# Altium schematic symbol library Molex Micro-Fit.SchLib: 19 symbols
Pins are listed as number, name and electrical type; pins without a type are passive.

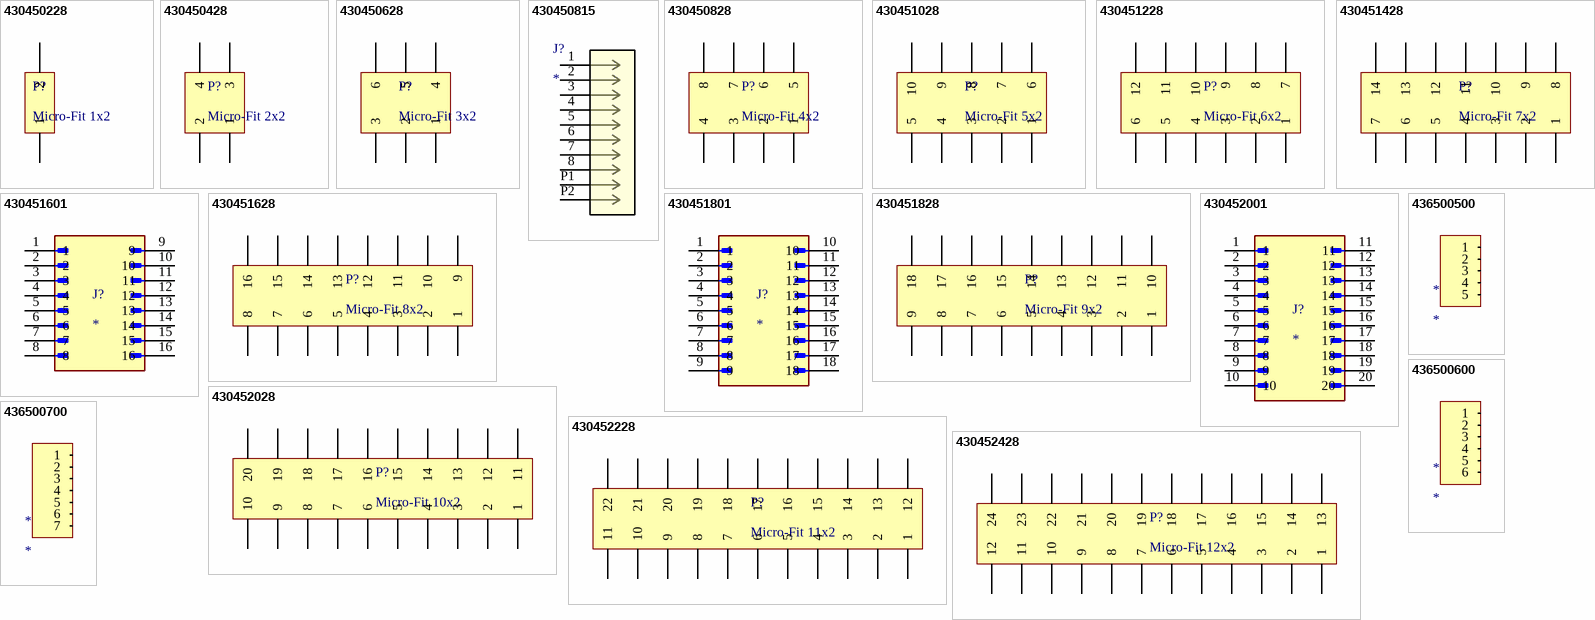
[diagram p0: symbols 430450228 to 436500700]

## 430450228
designator P?, comment Micro-Fit 1x2
pins: 1, 2

## 430450428
designator P?, comment Micro-Fit 2x2
pins: 1, 2, 3, 4

## 430450628
designator P?, comment Micro-Fit 3x2
pins: 1, 2, 3, 4, 5, 6

## 430450815
designator J?
No Description Available; Mfr_Name: Molex Connector Corporation; RefDes: RefDes; Type: Type
footprint CON_430450815_MOL
pins: 1, 2, 3, 4, 5, 6, 7, 8, P1, P2

## 430450828
designator P?, comment Micro-Fit 4x2
pins: 1, 2, 3, 4, 5, 6, 7, 8

## 430451028
designator P?, comment Micro-Fit 5x2
pins: 1, 2, 3, 4, 5, 6, 7, 8, 9, 10

## 430451228
designator P?, comment Micro-Fit 6x2
pins: 1, 2, 3, 4, 5, 6, 7, 8, 9, 10, 11, 12

## 430451428
designator P?, comment Micro-Fit 7x2
pins: 1, 2, 3, 4, 5, 6, 7, 8, 9, 10, 11, 12, 13, 14

## 430451601
designator J?
Micro-Fit 8x2 TH R/A; MP: 430451601; Price: None; Availability: Unavailable; Package: None; Value: *
footprint MOLEX_430451601
pins: 1, 2, 3, 4, 5, 6, 7, 8, 9, 10, 11, 12, 13, 14, 15, 16

## 430451628
designator P?, comment Micro-Fit 8x2
pins: 1, 2, 3, 4, 5, 6, 7, 8, 9, 10, 11, 12, 13, 14, 15, 16

## 430451801
designator J?
Micro-Fit 9x2 TH R/A; MP: 430451801; Availability: Unavailable; Package: None; Value: *; Price: None
footprint MOLEX_430451801
pins: 1, 2, 3, 4, 5, 6, 7, 8, 9, 10, 11, 12, 13, 14, 15, 16, 17, 18

## 430451828
designator P?, comment Micro-Fit 9x2
pins: 1, 2, 3, 4, 5, 6, 7, 8, 9, 10, 11, 12, 13, 14, 15, 16, 17, 18

## 430452001
designator J?
Micro-Fit 10x2 TH R/A; MP: 430452001; Package: None; Price: None; Availability: Unavailable; Value: *
footprint MOLEX_430452001
pins: 1, 2, 3, 4, 5, 6, 7, 8, 9, 10, 11, 12, 13, 14, 15, 16, 17, 18, 19, 20

## 430452028
designator P?, comment Micro-Fit 10x2
pins: 1, 2, 3, 4, 5, 6, 7, 8, 9, 10, 11, 12, 13, 14, 15, 16, 17, 18, 19, 20

## 430452228
designator P?, comment Micro-Fit 11x2
pins: 1, 2, 3, 4, 5, 6, 7, 8, 9, 10, 11, 12, 13, 14, 15, 16, 17, 18, 19, 20, 21, 22

## 430452428
designator P?, comment Micro-Fit 12x2
pins: 1, 2, 3, 4, 5, 6, 7, 8, 9, 10, 11, 12, 13, 14, 15, 16, 17, 18, 19, 20, 21, 22, 23, 24

## 436500500
designator *
Micro-Fit 5x1
pins: 1, 2, 3, 4, 5

## 436500600
designator *
Micro-Fit 6x1
pins: 1, 2, 3, 4, 5, 6

## 436500700
designator *
Micro-Fit 7x1
pins: 1, 2, 3, 4, 5, 6, 7